# Altium integrated library ON Semi Power Mgt Battery.IntLib: 9 symbols
Pins are listed as number, name and electrical type; pins without a type are passive.

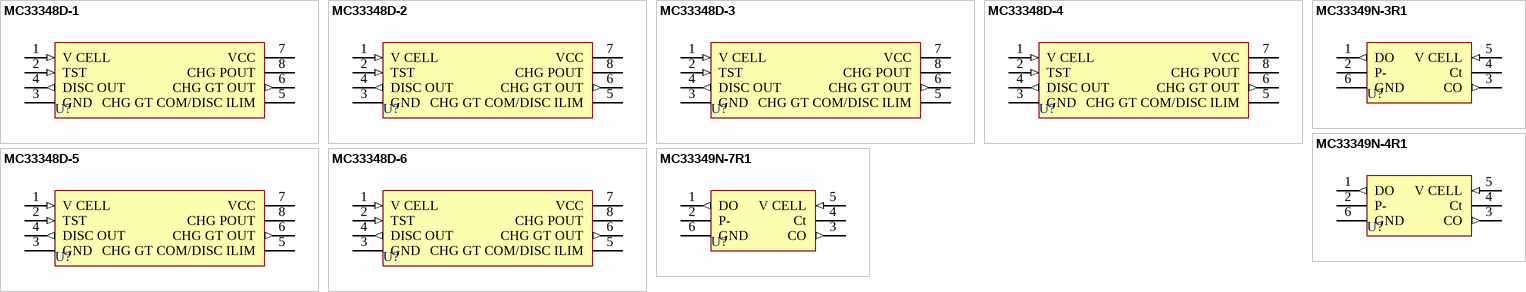
[diagram p0: symbols MC33348D-1 to MC33349N-7R1]

## MC33348D-1
designator U?
Lithium Battery Protection Circuit for One Cell Battery Packs; Published: 15-Apr-2002; LatestRevisionDate: 13-Apr-2006; LatestRevisionNote: IPC-7351 Footprint Added.; DatasheetVersion: 1999; PackageVersion: 1998; PackageReference: 751-05; Publisher: Altium Limited; PackageDescription: 8-Pin Small Outline Integrated Circuit 1.27 mm Pitch; Code_JEDEC: MS-012-AA; Code_IPC: SOIC127P600-8; ComponentLink1Description: Manufacturer Link; ComponentLink1URL: http://www.onsemi.com/site/products/taxonomy/0,4438,503,00.html
footprint 751-05_N (SOIC, 8-Leads, Body 4.9x3.9mm, Pitch 1.27mm, IPC Medium Density)
footprint 751-05_L (SOIC, 8-Leads, Body 4.9x3.9mm, Pitch 1.27mm, IPC High Density)
footprint 751-05_M (SOIC, 8-Leads, Body 4.9x3.9mm, Pitch 1.27mm, IPC Low Density)
pins: 1 V CELL (in), 2 TST (in), 3 GND (power), 4 DISC OUT (out), 5 CHG GT COM/DISC ILIM, 6 CHG GT OUT (out), 7 VCC (power), 8 CHG POUT

## MC33348D-2
designator U?
Lithium Battery Protection Circuit for One Cell Battery Packs; Published: 15-Apr-2002; LatestRevisionDate: 13-Apr-2006; LatestRevisionNote: IPC-7351 Footprint Added.; DatasheetVersion: 1999; PackageVersion: 1998; PackageReference: 751-05; Publisher: Altium Limited; PackageDescription: 8-Pin Small Outline Integrated Circuit 1.27 mm Pitch; Code_JEDEC: MS-012-AA; Code_IPC: SOIC127P600-8; ComponentLink1Description: Manufacturer Link; ComponentLink1URL: http://www.onsemi.com/site/products/taxonomy/0,4438,503,00.html
footprint 751-05_N (SOIC, 8-Leads, Body 4.9x3.9mm, Pitch 1.27mm, IPC Medium Density)
footprint 751-05_L (SOIC, 8-Leads, Body 4.9x3.9mm, Pitch 1.27mm, IPC High Density)
footprint 751-05_M (SOIC, 8-Leads, Body 4.9x3.9mm, Pitch 1.27mm, IPC Low Density)
pins: 1 V CELL (in), 2 TST (in), 3 GND (power), 4 DISC OUT (out), 5 CHG GT COM/DISC ILIM, 6 CHG GT OUT (out), 7 VCC (power), 8 CHG POUT

## MC33348D-3
designator U?
Lithium Battery Protection Circuit for One Cell Battery Packs; Published: 15-Apr-2002; LatestRevisionDate: 13-Apr-2006; LatestRevisionNote: IPC-7351 Footprint Added.; DatasheetVersion: 1999; PackageVersion: 1998; PackageReference: 751-05; Publisher: Altium Limited; PackageDescription: 8-Pin Small Outline Integrated Circuit 1.27 mm Pitch; Code_JEDEC: MS-012-AA; Code_IPC: SOIC127P600-8; ComponentLink1Description: Manufacturer Link; ComponentLink1URL: http://www.onsemi.com/site/products/taxonomy/0,4438,503,00.html
footprint 751-05_N (SOIC, 8-Leads, Body 4.9x3.9mm, Pitch 1.27mm, IPC Medium Density)
footprint 751-05_L (SOIC, 8-Leads, Body 4.9x3.9mm, Pitch 1.27mm, IPC High Density)
footprint 751-05_M (SOIC, 8-Leads, Body 4.9x3.9mm, Pitch 1.27mm, IPC Low Density)
pins: 1 V CELL (in), 2 TST (in), 3 GND (power), 4 DISC OUT (out), 5 CHG GT COM/DISC ILIM, 6 CHG GT OUT (out), 7 VCC (power), 8 CHG POUT

## MC33348D-4
designator U?
Lithium Battery Protection Circuit for One Cell Battery Packs; Published: 15-Apr-2002; LatestRevisionDate: 13-Apr-2006; LatestRevisionNote: IPC-7351 Footprint Added.; DatasheetVersion: 1999; PackageVersion: 1998; PackageReference: 751-05; Publisher: Altium Limited; PackageDescription: 8-Pin Small Outline Integrated Circuit 1.27 mm Pitch; Code_JEDEC: MS-012-AA; Code_IPC: SOIC127P600-8; ComponentLink1Description: Manufacturer Link; ComponentLink1URL: http://www.onsemi.com/site/products/taxonomy/0,4438,503,00.html
footprint 751-05_N (SOIC, 8-Leads, Body 4.9x3.9mm, Pitch 1.27mm, IPC Medium Density)
footprint 751-05_L (SOIC, 8-Leads, Body 4.9x3.9mm, Pitch 1.27mm, IPC High Density)
footprint 751-05_M (SOIC, 8-Leads, Body 4.9x3.9mm, Pitch 1.27mm, IPC Low Density)
pins: 1 V CELL (in), 2 TST (in), 3 GND (power), 4 DISC OUT (out), 5 CHG GT COM/DISC ILIM, 6 CHG GT OUT (out), 7 VCC (power), 8 CHG POUT

## MC33348D-5
designator U?
Lithium Battery Protection Circuit for One Cell Battery Packs; Published: 15-Apr-2002; LatestRevisionDate: 13-Apr-2006; LatestRevisionNote: IPC-7351 Footprint Added.; DatasheetVersion: 1999; PackageVersion: 1998; PackageReference: 751-05; Publisher: Altium Limited; PackageDescription: 8-Pin Small Outline Integrated Circuit 1.27 mm Pitch; Code_JEDEC: MS-012-AA; Code_IPC: SOIC127P600-8; ComponentLink1Description: Manufacturer Link; ComponentLink1URL: http://www.onsemi.com/site/products/taxonomy/0,4438,503,00.html
footprint 751-05_N (SOIC, 8-Leads, Body 4.9x3.9mm, Pitch 1.27mm, IPC Medium Density)
footprint 751-05_L (SOIC, 8-Leads, Body 4.9x3.9mm, Pitch 1.27mm, IPC High Density)
footprint 751-05_M (SOIC, 8-Leads, Body 4.9x3.9mm, Pitch 1.27mm, IPC Low Density)
pins: 1 V CELL (in), 2 TST (in), 3 GND (power), 4 DISC OUT (out), 5 CHG GT COM/DISC ILIM, 6 CHG GT OUT (out), 7 VCC (power), 8 CHG POUT

## MC33348D-6
designator U?
Lithium Battery Protection Circuit for One Cell Battery Packs; Published: 15-Apr-2002; LatestRevisionDate: 13-Apr-2006; LatestRevisionNote: IPC-7351 Footprint Added.; DatasheetVersion: 1999; PackageVersion: 1998; PackageReference: 751-05; Publisher: Altium Limited; PackageDescription: 8-Pin Small Outline Integrated Circuit 1.27 mm Pitch; Code_JEDEC: MS-012-AA; Code_IPC: SOIC127P600-8; ComponentLink1Description: Manufacturer Link; ComponentLink1URL: http://www.onsemi.com/site/products/taxonomy/0,4438,503,00.html
footprint 751-05_N (SOIC, 8-Leads, Body 4.9x3.9mm, Pitch 1.27mm, IPC Medium Density)
footprint 751-05_L (SOIC, 8-Leads, Body 4.9x3.9mm, Pitch 1.27mm, IPC High Density)
footprint 751-05_M (SOIC, 8-Leads, Body 4.9x3.9mm, Pitch 1.27mm, IPC Low Density)
pins: 1 V CELL (in), 2 TST (in), 3 GND (power), 4 DISC OUT (out), 5 CHG GT COM/DISC ILIM, 6 CHG GT OUT (out), 7 VCC (power), 8 CHG POUT

## MC33349N-3R1
designator U?
Lithium Battery Protection Circuit for One Cell Battery Packs; Published: 15-Apr-2002; DatasheetVersion: May-2000; PackageVersion: May-2000; PackageReference: 1262-01; Publisher: Altium Limited; PackageDescription: SOT-457/SC-74; 6 Leads; Body 3 x 3 mm, inc. leads (LxW max); ComponentLink1Description: Manufacturer Link; ComponentLink1URL: http://www.onsemi.com/site/products/taxonomy/0,4438,503,00.html; ComponentLink2Description: Datasheet; ComponentLink2URL: http://www.onsemi.com/pub/Collateral/MC33349-D.PDF
footprint 1262-01 (SOT-457/SC-74; 6 Leads; Body 3 x 3 mm, inc. leads (LxW max))
pins: 1 DO (out), 2 P-, 3 CO (out), 4 Ct, 5 V CELL (in), 6 GND (power)

## MC33349N-4R1
designator U?
Lithium Battery Protection Circuit for One Cell Battery Packs; Published: 15-Apr-2002; DatasheetVersion: May-2000; PackageVersion: May-2000; PackageReference: 1262-01; Publisher: Altium Limited; PackageDescription: SOT-457/SC-74; 6 Leads; Body 3 x 3 mm, inc. leads (LxW max); ComponentLink1Description: Manufacturer Link; ComponentLink1URL: http://www.onsemi.com/site/products/taxonomy/0,4438,503,00.html; ComponentLink2Description: Datasheet; ComponentLink2URL: http://www.onsemi.com/pub/Collateral/MC33349-D.PDF
footprint 1262-01 (SOT-457/SC-74; 6 Leads; Body 3 x 3 mm, inc. leads (LxW max))
pins: 1 DO (out), 2 P-, 3 CO (out), 4 Ct, 5 V CELL (in), 6 GND (power)

## MC33349N-7R1
designator U?
Lithium Battery Protection Circuit for One Cell Battery Packs; Published: 15-Apr-2002; DatasheetVersion: May-2000; PackageVersion: May-2000; PackageReference: 1262-01; Publisher: Altium Limited; PackageDescription: SOT-457/SC-74; 6 Leads; Body 3 x 3 mm, inc. leads (LxW max); ComponentLink1Description: Manufacturer Link; ComponentLink1URL: http://www.onsemi.com/site/products/taxonomy/0,4438,503,00.html; ComponentLink2Description: Datasheet; ComponentLink2URL: http://www.onsemi.com/pub/Collateral/MC33349-D.PDF
footprint 1262-01 (SOT-457/SC-74; 6 Leads; Body 3 x 3 mm, inc. leads (LxW max))
pins: 1 DO (out), 2 P-, 3 CO (out), 4 Ct, 5 V CELL (in), 6 GND (power)